# Altium footprint library Diode_SMD_0805(blue).PcbLib: 1 footprints
Each footprint in its own frame and in the unit in brackets; x right, y up, seen from the top. Pads: shape width x height; smd on the part's side, far side on the other; paste and mask are expansions set on the pad; w line width, h text height; cw(c..) or ccw(c..) is an arc to the next point about the centre after c.
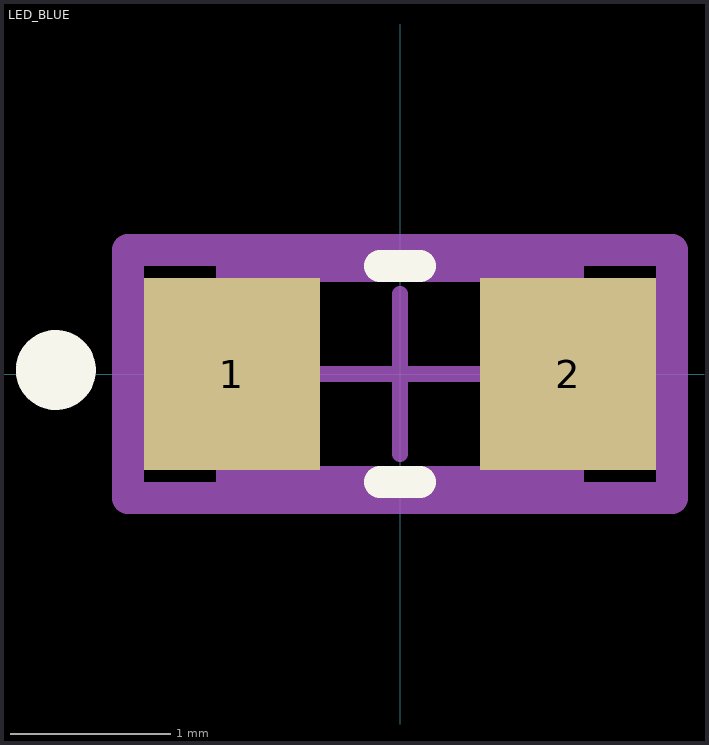
[diagram p0: the footprint, top view; thin cyan lines are the x and y axes]

## LED_BLUE [mm]
pads (2):
  rect 1.1x1.2 smd paste+0 mask+0: 1(-1.05,0) 2(1.05,0)
Top Overlay:
  circle w0.25: c-2.15,0.025 r0.125
  lines w0.2: -0.125,-0.675 0.125,-0.675 ; -0.125,0.675 0.125,0.675
Mechanical 10:
  lines w0.2: -1.7,-0.775 1.7,-0.775 1.7,0.775 -1.7,0.775 -1.7,-0.775
  text ".Designator" at 0,-0.001 h1
Mechanical 12:
  lines w0.2: -1.05,-0.675 1.05,-0.675 1.05,0.675 -1.05,0.675 -1.05,-0.675
Mechanical 15:
  lines w0.1: -0.5,0 0.5,0 ; 0,-0.5 0,0.5
  lines w0.2: -1.7,-0.775 1.7,-0.775 1.7,0.775 -1.7,0.775 -1.7,-0.775
3D body "Diode Wurth Electronics (blue).STEP": height 0.8, standoff 0, extent -1,-0.626 1,0.626